# EAGLE library part IC_MCP6N11 (library akita)
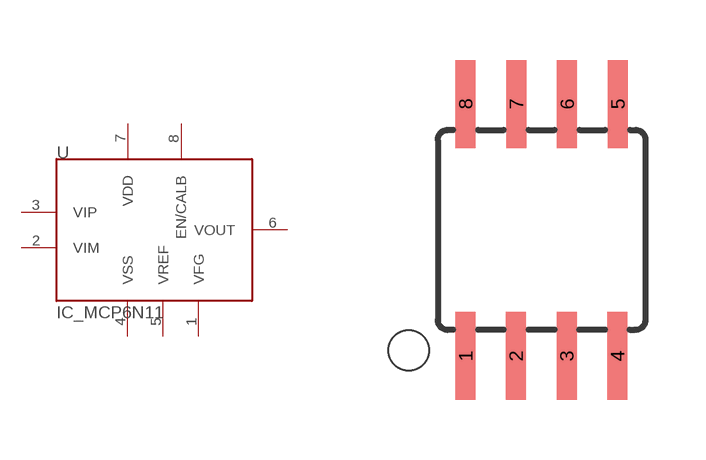
[diagram p88: symbol with the pads of SOIC8; footprint SOIC8]

Designator prefix U

## IC_MCP6N11SN  [SOIC8]
1  VFG
2  VIM
3  VIP
4  VSS
5  VREF
6  VOUT
7  VDD
8  EN/CALB

## Footprint SOIC8 (pad centres in mm)
Wide Plastic Gull Wing Small Outline Package
smd 0.5 x 2.2: 1 -1.905,-3.154; 2 -0.645,-3.154; 3 0.625,-3.154; 4 1.895,-3.154; 5 1.905,3.154; 6 0.635,3.154; 7 -0.635,3.154; 8 -1.905,3.154